# EAGLE library part EPF10K30-FBGA256 (library altera)
EPF10K30 FLEX 10K family
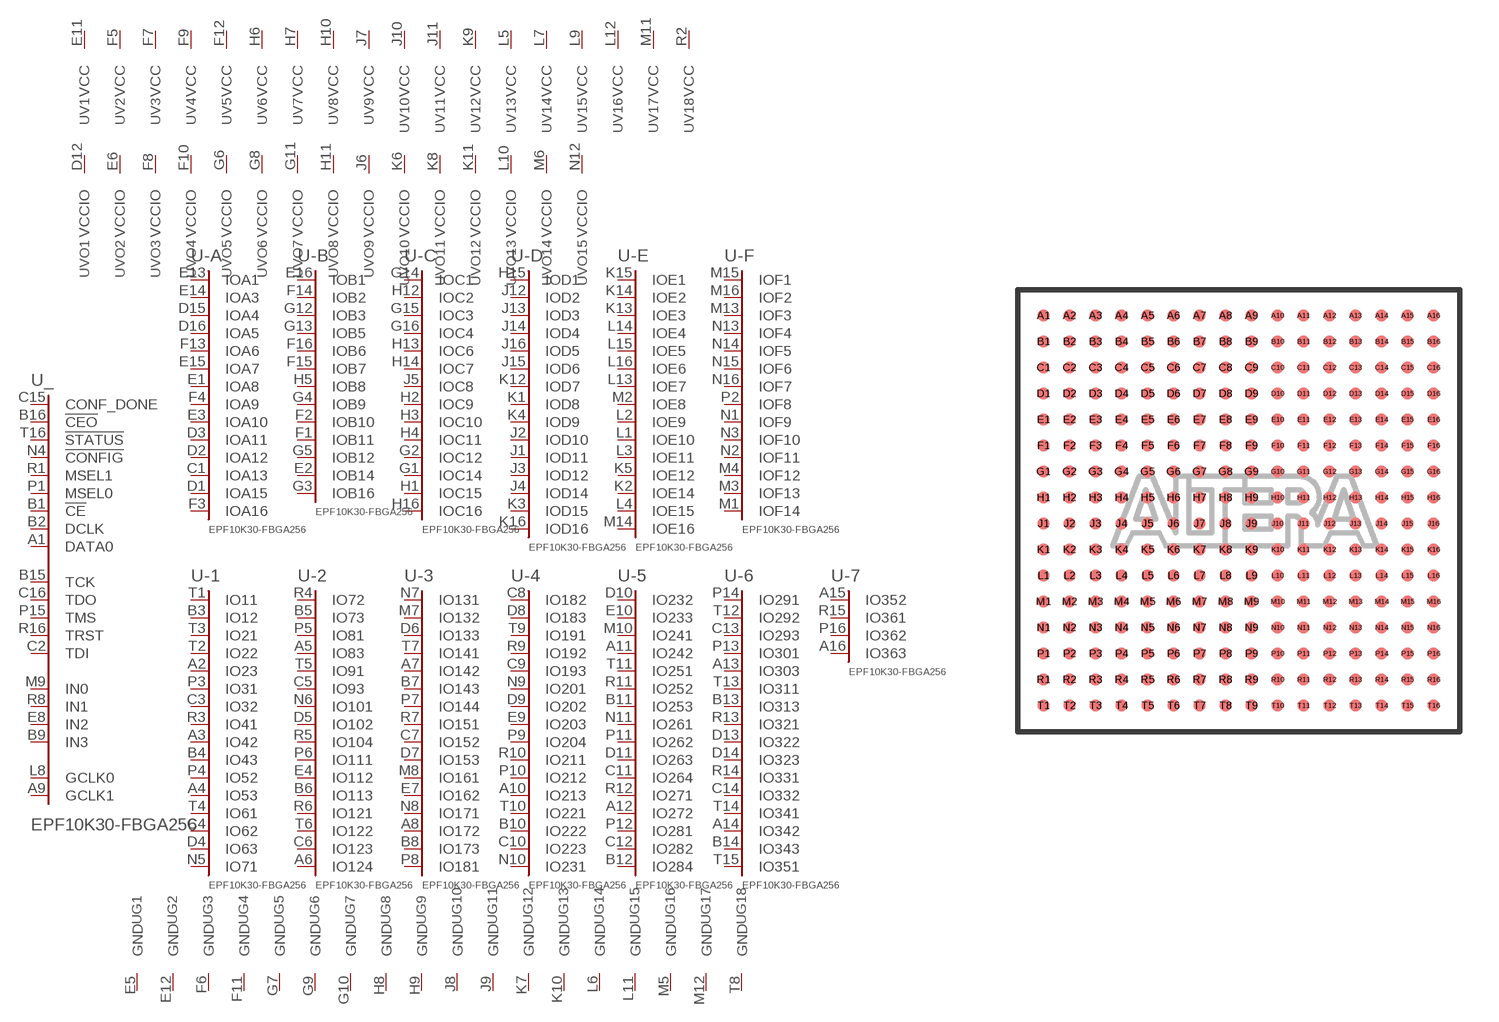
[diagram p48: symbol with the pads of FBGA256; footprint FBGA256]

Designator prefix U; gates _=100R240C -A=A16-30B -B=B16-30B -C=C16-30B -D=D16-30B -E=E16-30B -F=F14-30B -1=71-30B -2=124-30B -3=181-30B -4=231-30B -5=284-30B -6=351-30B -7=363-30B G1=GND G2=GND G3=GND G4=GND G5=GND G6=GND G7=GND G8=GND G9=GND G10=GND G11=GND G12=GND G13=GND G14=GND G15=GND G16=GND G17=GND G18=GND V1=VCCINT V2=VCCINT V3=VCCINT V4=VCCINT V5=VCCINT V6=VCCINT V7=VCCINT V8=VCCINT V9=VCCINT V10=VCCINT V11=VCCINT V12=VCCINT V13=VCCINT V14=VCCINT V15=VCCINT V16=VCCINT V17=VCCINT V18=VCCINT VO1=VCCIO VO2=VCCIO VO3=VCCIO VO4=VCCIO VO5=VCCIO VO6=VCCIO VO7=VCCIO VO8=VCCIO VO9=VCCIO VO10=VCCIO VO11=VCCIO VO12=VCCIO VO13=VCCIO VO14=VCCIO VO15=VCCIO

## EPF10K30-FBGA256  [FBGA256]
A1  _:DATA0  in
A2  -1:IO23
A3  -1:IO42
A4  -1:IO53
A5  -2:IO83
A6  -2:IO124
A7  -3:IO142
A8  -3:IO172
A9  _:GCLK1  in
A10  -4:IO213
A11  -5:IO242
A12  -5:IO272
A13  -6:IO303
A14  -6:IO342
A15  -7:IO352
A16  -7:IO363
B1  _:!CE!  in
B2  _:DCLK  in
B3  -1:IO12
B4  -1:IO43
B5  -2:IO73
B6  -2:IO113
B7  -3:IO143
B8  -3:IO173
B9  _:IN3  in
B10  -4:IO222
B11  -5:IO253
B12  -5:IO284
B13  -6:IO313
B14  -6:IO343
B15  _:TCK
B16  _:!CEO!  in
C1  -A:IOA13
C2  _:TDI
C3  -1:IO32
C4  -1:IO62
C5  -2:IO93
C6  -2:IO123
C7  -3:IO152
C8  -4:IO182
C9  -4:IO193
C10  -4:IO223
C11  -5:IO264
C12  -5:IO282
C13  -6:IO293
C14  -6:IO332
C15  _:CONF_DONE  in
C16  _:TDO
D1  -A:IOA15
D2  -A:IOA12
D3  -A:IOA11
D4  -1:IO63
D5  -2:IO102
D6  -3:IO133
D7  -3:IO153
D8  -4:IO183
D9  -4:IO202
D10  -5:IO232
D11  -5:IO263
D12  VO1:VCCIO  pwr
D13  -6:IO322
D14  -6:IO323
D15  -A:IOA4
D16  -A:IOA5
E1  -A:IOA8
E2  -B:IOB14
E3  -A:IOA10
E4  -2:IO112
E5  G1:GND  pwr
E6  VO2:VCCIO  pwr
E7  -3:IO162
E8  _:IN2  in
E9  -4:IO203
E10  -5:IO233
E11  V1:VCC  pwr
E12  G2:GND  pwr
E13  -A:IOA1
E14  -A:IOA3
E15  -A:IOA7
E16  -B:IOB1
F1  -B:IOB11
F2  -B:IOB10
F3  -A:IOA16
F4  -A:IOA9
F5  V2:VCC  pwr
F6  G3:GND  pwr
F7  V3:VCC  pwr
F8  VO3:VCCIO  pwr
F9  V4:VCC  pwr
F10  VO4:VCCIO  pwr
F11  G4:GND  pwr
F12  V5:VCC  pwr
F13  -A:IOA6
F14  -B:IOB2
F15  -B:IOB7
F16  -B:IOB6
G1  -C:IOC14
G2  -C:IOC12
G3  -B:IOB16
G4  -B:IOB9
G5  -B:IOB12
G6  VO5:VCCIO  pwr
G7  G5:GND  pwr
G8  VO6:VCCIO  pwr
G9  G6:GND  pwr
G10  G7:GND  pwr
G11  VO7:VCCIO  pwr
G12  -B:IOB3
G13  -B:IOB5
G14  -C:IOC1
G15  -C:IOC3
G16  -C:IOC4
H1  -C:IOC15
H2  -C:IOC9
H3  -C:IOC10
H4  -C:IOC11
H5  -B:IOB8
H6  V6:VCC  pwr
H7  V7:VCC  pwr
H8  G8:GND  pwr
H9  G9:GND  pwr
H10  V8:VCC  pwr
H11  VO8:VCCIO  pwr
H12  -C:IOC2
H13  -C:IOC6
H14  -C:IOC7
H15  -D:IOD1
H16  -C:IOC16
J1  -D:IOD11
J2  -D:IOD10
J3  -D:IOD12
J4  -D:IOD14
J5  -C:IOC8
J6  VO9:VCCIO  pwr
J7  V9:VCC  pwr
J8  G10:GND  pwr
J9  G11:GND  pwr
J10  V10:VCC  pwr
J11  V11:VCC  pwr
J12  -D:IOD2
J13  -D:IOD3
J14  -D:IOD4
J15  -D:IOD6
J16  -D:IOD5
K1  -D:IOD8
K2  -E:IOE14
K3  -D:IOD15
K4  -D:IOD9
K5  -E:IOE12
K6  VO10:VCCIO  pwr
K7  G12:GND  pwr
K8  VO11:VCCIO  pwr
K9  V12:VCC  pwr
K10  G13:GND  pwr
K11  VO12:VCCIO  pwr
K12  -D:IOD7
K13  -E:IOE3
K14  -E:IOE2
K15  -E:IOE1
K16  -D:IOD16
L1  -E:IOE10
L2  -E:IOE9
L3  -E:IOE11
L4  -E:IOE15
L5  V13:VCC  pwr
L6  G14:GND  pwr
L7  V14:VCC  pwr
L8  _:GCLK0  in
L9  V15:VCC  pwr
L10  VO13:VCCIO  pwr
L11  G15:GND  pwr
L12  V16:VCC  pwr
L13  -E:IOE7
L14  -E:IOE4
L15  -E:IOE5
L16  -E:IOE6
M1  -F:IOF14
M2  -E:IOE8
M3  -F:IOF13
M4  -F:IOF12
M5  G16:GND  pwr
M6  VO14:VCCIO  pwr
M7  -3:IO132
M8  -3:IO161
M9  _:IN0  in
M10  -5:IO241
M11  V17:VCC  pwr
M12  G17:GND  pwr
M13  -F:IOF3
M14  -E:IOE16
M15  -F:IOF1
M16  -F:IOF2
N1  -F:IOF9
N2  -F:IOF11
N3  -F:IOF10
N4  _:!CONFIG!  in
N5  -1:IO71
N6  -2:IO101
N7  -3:IO131
N8  -3:IO171
N9  -4:IO201
N10  -4:IO231
N11  -5:IO261
N12  VO15:VCCIO  pwr
N13  -F:IOF4
N14  -F:IOF5
N15  -F:IOF6
N16  -F:IOF7
P1  _:MSEL0  in
P2  -F:IOF8
P3  -1:IO31
P4  -1:IO52
P5  -2:IO81
P6  -2:IO111
P7  -3:IO144
P8  -3:IO181
P9  -4:IO204
P10  -4:IO212
P11  -5:IO262
P12  -5:IO281
P13  -6:IO301
P14  -6:IO291
P15  _:TMS
P16  -7:IO362
R1  _:MSEL1  in
R2  V18:VCC  pwr
R3  -1:IO41
R4  -2:IO72
R5  -2:IO104
R6  -2:IO121
R7  -3:IO151
R8  _:IN1  in
R9  -4:IO192
R10  -4:IO211
R11  -5:IO252
R12  -5:IO271
R13  -6:IO321
R14  -6:IO331
R15  -7:IO361
R16  _:TRST
T1  -1:IO11
T2  -1:IO22
T3  -1:IO21
T4  -1:IO61
T5  -2:IO91
T6  -2:IO122
T7  -3:IO141
T8  G18:GND  pwr
T9  -4:IO191
T10  -4:IO221
T11  -5:IO251
T12  -6:IO292
T13  -6:IO311
T14  -6:IO341
T15  -6:IO351
T16  _:!STATUS!  in

## Footprint FBGA256 (pad centres in mm)
Fine Ball Grid Array
smd 0.45 x 0.45: A1 -7.5,7.5; A2 -6.5,7.5; A3 -5.5,7.5; A4 -4.5,7.5; A5 -3.5,7.5; A6 -2.5,7.5; A7 -1.5,7.5; A8 -0.5,7.5; A9 0.5,7.5; A10 1.5,7.5; A11 2.5,7.5; A12 3.5,7.5; A13 4.5,7.5; A14 5.5,7.5; A15 6.5,7.5; A16 7.5,7.5; B1 -7.5,6.5; B2 -6.5,6.5; B3 -5.5,6.5; B4 -4.5,6.5; B5 -3.5,6.5; B6 -2.5,6.5; B7 -1.5,6.5; B8 -0.5,6.5; B9 0.5,6.5; B10 1.5,6.5; B11 2.5,6.5; B12 3.5,6.5; B13 4.5,6.5; B14 5.5,6.5; B15 6.5,6.5; B16 7.5,6.5; C1 -7.5,5.5; C2 -6.5,5.5; C3 -5.5,5.5; C4 -4.5,5.5; C5 -3.5,5.5; C6 -2.5,5.5; C7 -1.5,5.5; C8 -0.5,5.5; C9 0.5,5.5; C10 1.5,5.5; C11 2.5,5.5; C12 3.5,5.5; C13 4.5,5.5; C14 5.5,5.5; C15 6.5,5.5; C16 7.5,5.5; D1 -7.5,4.5; D2 -6.5,4.5; D3 -5.5,4.5; D4 -4.5,4.5; D5 -3.5,4.5; D6 -2.5,4.5; D7 -1.5,4.5; D8 -0.5,4.5; D9 0.5,4.5; D10 1.5,4.5; D11 2.5,4.5; D12 3.5,4.5; D13 4.5,4.5; D14 5.5,4.5; D15 6.5,4.5; D16 7.5,4.5; E1 -7.5,3.5; E2 -6.5,3.5; E3 -5.5,3.5; E4 -4.5,3.5; E5 -3.5,3.5; E6 -2.5,3.5; E7 -1.5,3.5; E8 -0.5,3.5; E9 0.5,3.5; E10 1.5,3.5; E11 2.5,3.5; E12 3.5,3.5; E13 4.5,3.5; E14 5.5,3.5; E15 6.5,3.5; E16 7.5,3.5; F1 -7.5,2.5; F2 -6.5,2.5; F3 -5.5,2.5; F4 -4.5,2.5; F5 -3.5,2.5; F6 -2.5,2.5; F7 -1.5,2.5; F8 -0.5,2.5; F9 0.5,2.5; F10 1.5,2.5; F11 2.5,2.5; F12 3.5,2.5; F13 4.5,2.5; F14 5.5,2.5; F15 6.5,2.5; F16 7.5,2.5; G1 -7.5,1.5; G2 -6.5,1.5; G3 -5.5,1.5; G4 -4.5,1.5; G5 -3.5,1.5; G6 -2.5,1.5; G7 -1.5,1.5; G8 -0.5,1.5; G9 0.5,1.5; G10 1.5,1.5; G11 2.5,1.5; G12 3.5,1.5; G13 4.5,1.5; G14 5.5,1.5; G15 6.5,1.5; G16 7.5,1.5; H1 -7.5,0.5; H2 -6.5,0.5; H3 -5.5,0.5; H4 -4.5,0.5; H5 -3.5,0.5; H6 -2.5,0.5; H7 -1.5,0.5; H8 -0.5,0.5; H9 0.5,0.5; H10 1.5,0.5; H11 2.5,0.5; H12 3.5,0.5; H13 4.5,0.5; H14 5.5,0.5; H15 6.5,0.5; H16 7.5,0.5; J1 -7.5,-0.5; J2 -6.5,-0.5; J3 -5.5,-0.5; J4 -4.5,-0.5; J5 -3.5,-0.5; J6 -2.5,-0.5; J7 -1.5,-0.5; J8 -0.5,-0.5; J9 0.5,-0.5; J10 1.5,-0.5; J11 2.5,-0.5; J12 3.5,-0.5; J13 4.5,-0.5; J14 5.5,-0.5; J15 6.5,-0.5; J16 7.5,-0.5; K1 -7.5,-1.5; K2 -6.5,-1.5; K3 -5.5,-1.5; K4 -4.5,-1.5; K5 -3.5,-1.5; K6 -2.5,-1.5; K7 -1.5,-1.5; K8 -0.5,-1.5; K9 0.5,-1.5; K10 1.5,-1.5; K11 2.5,-1.5; K12 3.5,-1.5; K13 4.5,-1.5; K14 5.5,-1.5; K15 6.5,-1.5; K16 7.5,-1.5; L1 -7.5,-2.5; L2 -6.5,-2.5; L3 -5.5,-2.5; L4 -4.5,-2.5; L5 -3.5,-2.5; L6 -2.5,-2.5; L7 -1.5,-2.5; L8 -0.5,-2.5; L9 0.5,-2.5; L10 1.5,-2.5; L11 2.5,-2.5; L12 3.5,-2.5; L13 4.5,-2.5; L14 5.5,-2.5; L15 6.5,-2.5; L16 7.5,-2.5; M1 -7.5,-3.5; M2 -6.5,-3.5; M3 -5.5,-3.5; M4 -4.5,-3.5; M5 -3.5,-3.5; M6 -2.5,-3.5; M7 -1.5,-3.5; M8 -0.5,-3.5; M9 0.5,-3.5; M10 1.5,-3.5; M11 2.5,-3.5; M12 3.5,-3.5; M13 4.5,-3.5; M14 5.5,-3.5; M15 6.5,-3.5; M16 7.5,-3.5; N1 -7.5,-4.5; N2 -6.5,-4.5; N3 -5.5,-4.5; N4 -4.5,-4.5; N5 -3.5,-4.5; N6 -2.5,-4.5; N7 -1.5,-4.5; N8 -0.5,-4.5; N9 0.5,-4.5; N10 1.5,-4.5; N11 2.5,-4.5; N12 3.5,-4.5; N13 4.5,-4.5; N14 5.5,-4.5; N15 6.5,-4.5; N16 7.5,-4.5; P1 -7.5,-5.5; P2 -6.5,-5.5; P3 -5.5,-5.5; P4 -4.5,-5.5; P5 -3.5,-5.5; P6 -2.5,-5.5; P7 -1.5,-5.5; P8 -0.5,-5.5; P9 0.5,-5.5; P10 1.5,-5.5; P11 2.5,-5.5; P12 3.5,-5.5; P13 4.5,-5.5; P14 5.5,-5.5; P15 6.5,-5.5; P16 7.5,-5.5; R1 -7.5,-6.5; R2 -6.5,-6.5; R3 -5.5,-6.5; R4 -4.5,-6.5; R5 -3.5,-6.5; R6 -2.5,-6.5; R7 -1.5,-6.5; R8 -0.5,-6.5; R9 0.5,-6.5; R10 1.5,-6.5; R11 2.5,-6.5; R12 3.5,-6.5; R13 4.5,-6.5; R14 5.5,-6.5; R15 6.5,-6.5; R16 7.5,-6.5; T1 -7.5,-7.5; T2 -6.5,-7.5; T3 -5.5,-7.5; T4 -4.5,-7.5; T5 -3.5,-7.5; T6 -2.5,-7.5; T7 -1.5,-7.5; T8 -0.5,-7.5; T9 0.5,-7.5; T10 1.5,-7.5; T11 2.5,-7.5; T12 3.5,-7.5; T13 4.5,-7.5; T14 5.5,-7.5; T15 6.5,-7.5; T16 7.5,-7.5